# Altium footprint library BASIC Library.PCBLIB: 464 footprints (part 13 of 30)
Each footprint in its own frame and in the unit in brackets; x right, y up, seen from the top. Pads: shape width x height; smd on the part's side, far side on the other; paste and mask are expansions set on the pad; w line width, h text height; cw(c..) or ccw(c..) is an arc to the next point about the centre after c.
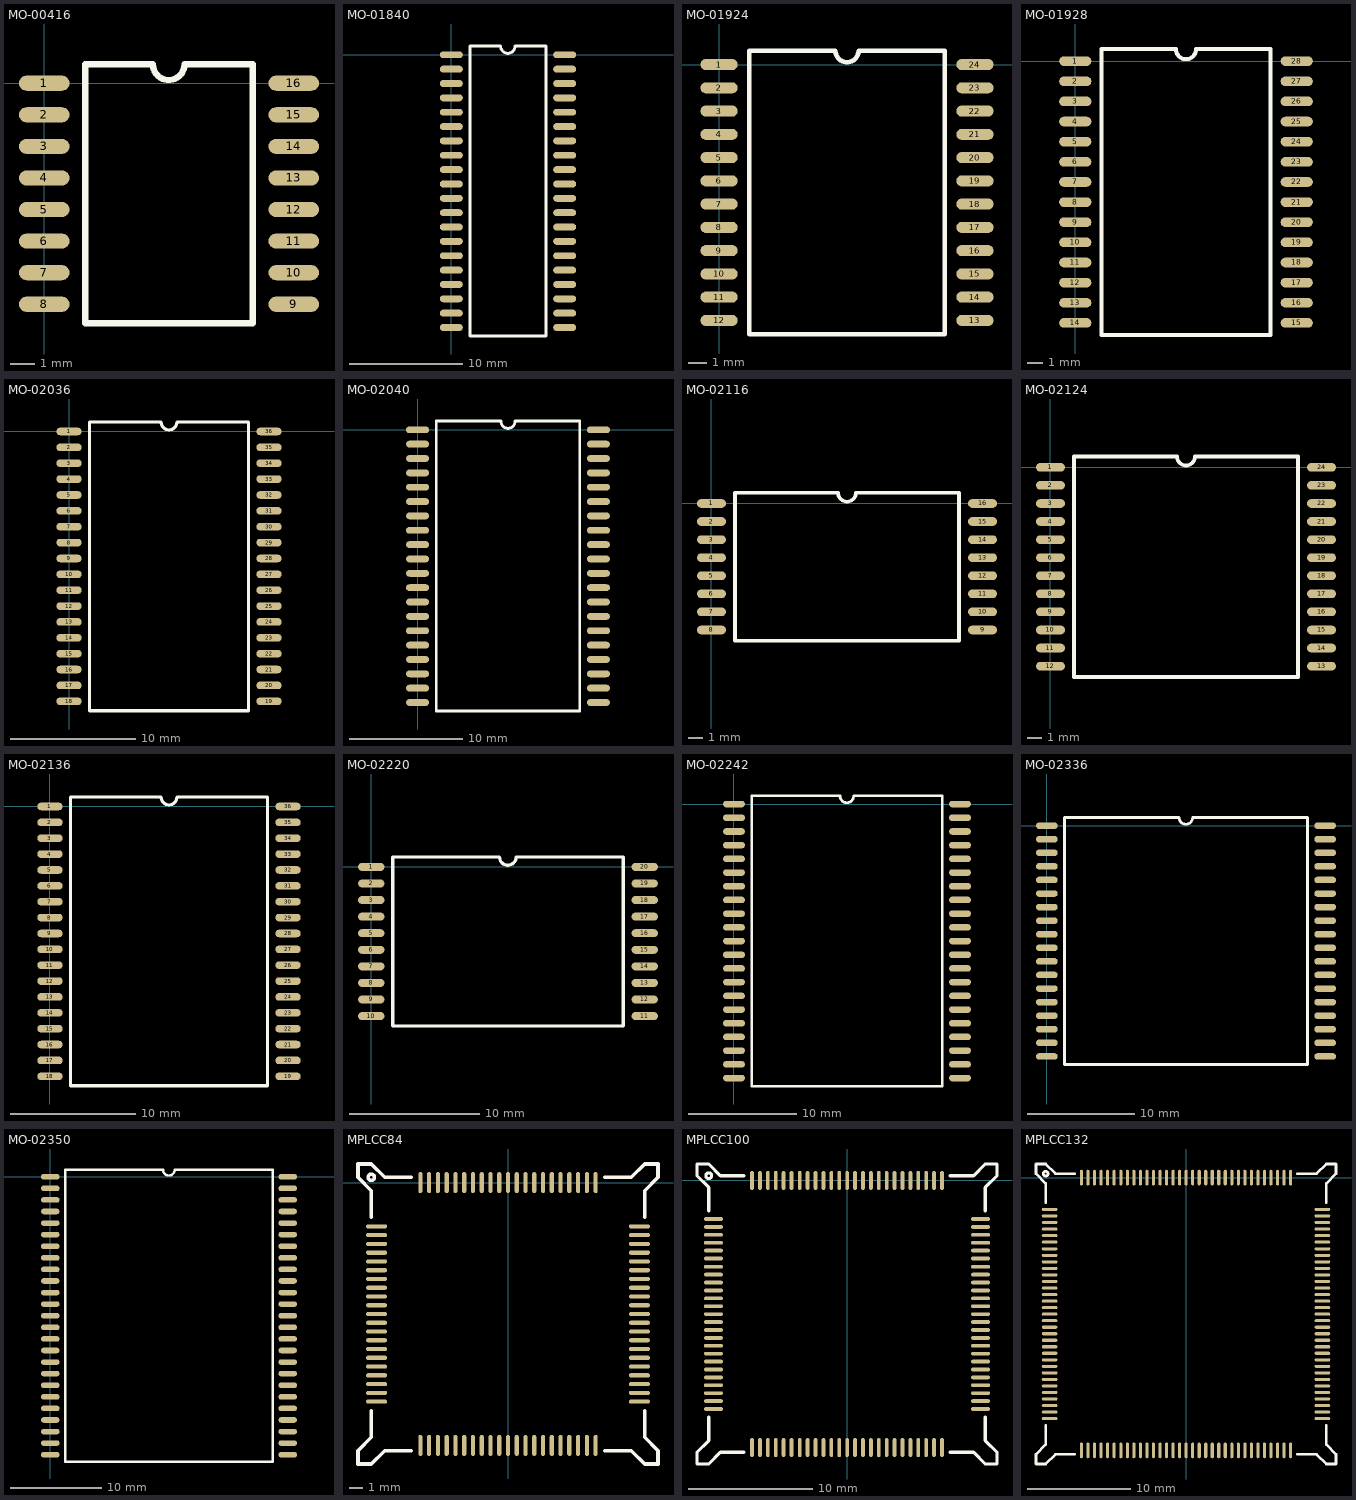
[diagram p12: the footprints below, top view; thin cyan lines are the x and y axes]

## MO-00416 [mil]
pads (16):
  oval 80x24 smd: 1(0,0) 2(0,-50) 3(0,-100) 4(0,-150) 5(0,-200) 6(0,-250) 7(0,-300) 8(0,-350) 9(395,-350) 10(395,-300) 11(395,-250) 12(395,-200) 13(395,-150) 14(395,-100) 15(395,-50) 16(395,0)
TopOverlay:
  lines w10: 65,-380 65,30 172,30 ccw(c197,30) 222,30 330,30 330,-380 65,-380

## MO-01840 [mil]
pads (40):
  oval 80x24 smd: 1(0,0) 2(0,-50) 3(0,-100) 4(0,-150) 5(0,-200) 6(0,-250) 7(0,-300) 8(0,-350) 9(0,-400) 10(0,-450) 11(0,-500) 12(0,-550) 13(0,-600) 14(0,-650) 15(0,-700) 16(0,-750) 17(0,-800) 18(0,-850) 19(0,-900) 20(0,-950) 21(395,-950) 22(395,-900) 23(395,-850) 24(395,-800) 25(395,-750) 26(395,-700) 27(395,-650) 28(395,-600) 29(395,-550) 30(395,-500) 31(395,-450) 32(395,-400) 33(395,-350) 34(395,-300) 35(395,-250) 36(395,-200) 37(395,-150) 38(395,-100) 39(395,-50) 40(395,0)
TopOverlay:
  lines w10: 65,-980 330,-980 330,30 222,30 cw(c197,30) 172,30 65,30 65,-980

## MO-01924 [mil]
pads (24):
  oval 80x24 smd: 1(0,0) 2(0,-50) 3(0,-100) 4(0,-150) 5(0,-200) 6(0,-250) 7(0,-300) 8(0,-350) 9(0,-400) 10(0,-450) 11(0,-500) 12(0,-550) 13(550,-550) 14(550,-500) 15(550,-450) 16(550,-400) 17(550,-350) 18(550,-300) 19(550,-250) 20(550,-200) 21(550,-150) 22(550,-100) 23(550,-50) 24(550,0)
TopOverlay:
  lines w10: 65,-580 65,30 250,30 ccw(c275,30) 300,30 485,30 485,-580 65,-580

## MO-01928 [mil]
pads (28):
  oval 80x24 smd: 1(0,0) 2(0,-50) 3(0,-100) 4(0,-150) 5(0,-200) 6(0,-250) 7(0,-300) 8(0,-350) 9(0,-400) 10(0,-450) 11(0,-500) 12(0,-550) 13(0,-600) 14(0,-650) 15(550,-650) 16(550,-600) 17(550,-550) 18(550,-500) 19(550,-450) 20(550,-400) 21(550,-350) 22(550,-300) 23(550,-250) 24(550,-200) 25(550,-150) 26(550,-100) 27(550,-50) 28(550,0)
TopOverlay:
  lines w10: 65,-680 65,30 250,30 ccw(c275,30) 300,30 485,30 485,-680 65,-680

## MO-02036 [mil]
pads (36):
  oval 80x24 smd: 1(0,0) 2(0,-50) 3(0,-100) 4(0,-150) 5(0,-200) 6(0,-250) 7(0,-300) 8(0,-350) 9(0,-400) 10(0,-450) 11(0,-500) 12(0,-550) 13(0,-600) 14(0,-650) 15(0,-700) 16(0,-750) 17(0,-800) 18(0,-850) 19(630,-850) 20(630,-800) 21(630,-750) 22(630,-700) 23(630,-650) 24(630,-600) 25(630,-550) 26(630,-500) 27(630,-450) 28(630,-400) 29(630,-350) 30(630,-300) 31(630,-250) 32(630,-200) 33(630,-150) 34(630,-100) 35(630,-50) 36(630,0)
TopOverlay:
  lines w10: 65,-880 65,30 290,30 ccw(c315,30) 340,30 565,30 565,-880 65,-880

## MO-02040 [mil]
pads (40):
  oval 80x24 smd: 1(0,0) 2(0,-50) 3(0,-100) 4(0,-150) 5(0,-200) 6(0,-250) 7(0,-300) 8(0,-350) 9(0,-400) 10(0,-450) 11(0,-500) 12(0,-550) 13(0,-600) 14(0,-650) 15(0,-700) 16(0,-750) 17(0,-800) 18(0,-850) 19(0,-900) 20(0,-950) 21(630,-950) 22(630,-900) 23(630,-850) 24(630,-800) 25(630,-750) 26(630,-700) 27(630,-650) 28(630,-600) 29(630,-550) 30(630,-500) 31(630,-450) 32(630,-400) 33(630,-350) 34(630,-300) 35(630,-250) 36(630,-200) 37(630,-150) 38(630,-100) 39(630,-50) 40(630,0)
TopOverlay:
  lines w10: 65,-980 65,30 290,30 ccw(c315,30) 340,30 565,30 565,-980 65,-980

## MO-02116 [mil]
pads (16):
  oval 80x24 smd: 1(0,0) 2(0,-50) 3(0,-100) 4(0,-150) 5(0,-200) 6(0,-250) 7(0,-300) 8(0,-350) 9(750,-350) 10(750,-300) 11(750,-250) 12(750,-200) 13(750,-150) 14(750,-100) 15(750,-50) 16(750,0)
TopOverlay:
  lines w10: 65,-380 65,30 350,30 ccw(c375,30) 400,30 685,30 685,-380 65,-380

## MO-02124 [mil]
pads (24):
  oval 80x24 smd: 1(0,0) 2(0,-50) 3(0,-100) 4(0,-150) 5(0,-200) 6(0,-250) 7(0,-300) 8(0,-350) 9(0,-400) 10(0,-450) 11(0,-500) 12(0,-550) 13(750,-550) 14(750,-500) 15(750,-450) 16(750,-400) 17(750,-350) 18(750,-300) 19(750,-250) 20(750,-200) 21(750,-150) 22(750,-100) 23(750,-50) 24(750,0)
TopOverlay:
  lines w10: 65,-580 65,30 350,30 ccw(c375,30) 400,30 685,30 685,-580 65,-580

## MO-02136 [mil]
pads (36):
  oval 80x24 smd: 1(0,0) 2(0,-50) 3(0,-100) 4(0,-150) 5(0,-200) 6(0,-250) 7(0,-300) 8(0,-350) 9(0,-400) 10(0,-450) 11(0,-500) 12(0,-550) 13(0,-600) 14(0,-650) 15(0,-700) 16(0,-750) 17(0,-800) 18(0,-850) 19(750,-850) 20(750,-800) 21(750,-750) 22(750,-700) 23(750,-650) 24(750,-600) 25(750,-550) 26(750,-500) 27(750,-450) 28(750,-400) 29(750,-350) 30(750,-300) 31(750,-250) 32(750,-200) 33(750,-150) 34(750,-100) 35(750,-50) 36(750,0)
TopOverlay:
  lines w10: 65,-880 65,30 350,30 ccw(c375,30) 400,30 685,30 685,-880 65,-880

## MO-02220 [mil]
pads (20):
  oval 80x24 smd: 1(0,0) 2(0,-50) 3(0,-100) 4(0,-150) 5(0,-200) 6(0,-250) 7(0,-300) 8(0,-350) 9(0,-400) 10(0,-450) 11(825,-450) 12(825,-400) 13(825,-350) 14(825,-300) 15(825,-250) 16(825,-200) 17(825,-150) 18(825,-100) 19(825,-50) 20(825,0)
TopOverlay:
  lines w10: 65,-480 65,30 387,30 ccw(c412,30) 437,30 760,30 760,-480 65,-480

## MO-02242 [mil]
pads (42):
  oval 80x24 smd: 1(0,0) 2(0,-50) 3(0,-100) 4(0,-150) 5(0,-200) 6(0,-250) 7(0,-300) 8(0,-350) 9(0,-400) 10(0,-450) 11(0,-500) 12(0,-550) 13(0,-600) 14(0,-650) 15(0,-700) 16(0,-750) 17(0,-800) 18(0,-850) 19(0,-900) 20(0,-950) 21(0,-1000) 22(825,-1000) 23(825,-950) 24(825,-900) 25(825,-850) 26(825,-800) 27(825,-750) 28(825,-700) 29(825,-650) 30(825,-600) 31(825,-550) 32(825,-500) 33(825,-450) 34(825,-400) 35(825,-350) 36(825,-300) 37(825,-250) 38(825,-200) 39(825,-150) 40(825,-100) 41(825,-50) 42(825,0)
TopOverlay:
  lines w10: 65,-1030 65,30 387,30 ccw(c412,30) 437,30 760,30 760,-1030 65,-1030

## MO-02336 [mil]
pads (36):
  oval 80x24 smd: 1(0,0) 2(0,-50) 3(0,-100) 4(0,-150) 5(0,-200) 6(0,-250) 7(0,-300) 8(0,-350) 9(0,-400) 10(0,-450) 11(0,-500) 12(0,-550) 13(0,-600) 14(0,-650) 15(0,-700) 16(0,-750) 17(0,-800) 18(0,-850) 19(1025,-850) 20(1025,-800) 21(1025,-750) 22(1025,-700) 23(1025,-650) 24(1025,-600) 25(1025,-550) 26(1025,-500) 27(1025,-450) 28(1025,-400) 29(1025,-350) 30(1025,-300) 31(1025,-250) 32(1025,-200) 33(1025,-150) 34(1025,-100) 35(1025,-50) 36(1025,0)
TopOverlay:
  lines w10: 65,-880 65,30 487,30 ccw(c512,30) 537,30 960,30 960,-880 65,-880

## MO-02350 [mil]
pads (50):
  oval 80x24 smd: 1(0,0) 2(0,-50) 3(0,-100) 4(0,-150) 5(0,-200) 6(0,-250) 7(0,-300) 8(0,-350) 9(0,-400) 10(0,-450) 11(0,-500) 12(0,-550) 13(0,-600) 14(0,-650) 15(0,-700) 16(0,-750) 17(0,-800) 18(0,-850) 19(0,-900) 20(0,-950) 21(0,-1000) 22(0,-1050) 23(0,-1100) 24(0,-1150) 25(0,-1200) 26(1025,-1200) 27(1025,-1150) 28(1025,-1100) 29(1025,-1050) 30(1025,-1000) 31(1025,-950) 32(1025,-900) 33(1025,-850) 34(1025,-800) 35(1025,-750) 36(1025,-700) 37(1025,-650) 38(1025,-600) 39(1025,-550) 40(1025,-500) 41(1025,-450) 42(1025,-400) 43(1025,-350) 44(1025,-300) 45(1025,-250) 46(1025,-200) 47(1025,-150) 48(1025,-100) 49(1025,-50) 50(1025,0)
TopOverlay:
  lines w10: 65,-1230 65,30 487,30 ccw(c512,30) 537,30 960,30 960,-1230 65,-1230

## MPLCC84 [mil]
pads (84):
  oval 12x60 smd: 1(0,0) 2(-25,0) 3(-50,0) 4(-75,0) 5(-100,0) 6(-125,0) 7(-150,0) 8(-175,0) 9(-200,0) 10(-225,0) 11(-250,0) 33(-250,-750) 34(-225,-750) 35(-200,-750) 36(-175,-750) 37(-150,-750) 38(-125,-750) 39(-100,-750) 40(-75,-750) 41(-50,-750) 42(-25,-750) 43(0,-750) 44(25,-750) 45(50,-750) 46(75,-750) 47(100,-750) 48(125,-750) 49(150,-750) 50(175,-750) 51(200,-750) 52(225,-750) 53(250,-750) 75(250,0) 76(225,0) 77(200,0) 78(175,0) 79(150,0) 80(125,0) 81(100,0) 82(75,0) 83(50,0) 84(25,0)
  oval 60x12 smd: 12(-375,-125) 13(-375,-150) 14(-375,-175) 15(-375,-200) 16(-375,-225) 17(-375,-250) 18(-375,-275) 19(-375,-300) 20(-375,-325) 21(-375,-350) 22(-375,-375) 23(-375,-400) 24(-375,-425) 25(-375,-450) 26(-375,-475) 27(-375,-500) 28(-375,-525) 29(-375,-550) 30(-375,-575) 31(-375,-600) 32(-375,-625) 54(375,-625) 55(375,-600) 56(375,-575) 57(375,-550) 58(375,-525) 59(375,-500) 60(375,-475) 61(375,-450) 62(375,-425) 63(375,-400) 64(375,-375) 65(375,-350) 66(375,-325) 67(375,-300) 68(375,-275) 69(375,-250) 70(375,-225) 71(375,-200) 72(375,-175) 73(375,-150) 74(375,-125)
TopOverlay:
  circle w10: c-390,15 r9
  lines w10: -390,-651 -390,-727 -428,-765 -428,-803 -390,-803 -352,-765 -276,-765 ; -390,-99 -390,-23 -428,15 -428,53 -390,53 -352,15 -276,15 ; 276,-765 352,-765 390,-803 428,-803 428,-765 390,-727 390,-651 ; 276,15 352,15 390,53 428,53 428,15 390,-23 390,-99

## MPLCC100 [mil]
pads (100):
  oval 12x60 smd: 1(0,0) 2(-25,0) 3(-50,0) 4(-75,0) 5(-100,0) 6(-125,0) 7(-150,0) 8(-176,0) 9(-201,0) 10(-226,0) 11(-251,0) 12(-276,0) 13(-301,0) 39(-301,-845) 40(-276,-845) 41(-251,-845) 42(-226,-845) 43(-201,-845) 44(-176,-845) 45(-150,-845) 46(-125,-845) 47(-100,-845) 48(-75,-845) 49(-50,-845) 50(-25,-845) 51(0,-845) 52(25,-845) 53(50,-845) 54(75,-845) 55(100,-845) 56(125,-845) 57(150,-845) 58(175,-845) 59(200,-845) 60(225,-845) 61(250,-845) 62(275,-845) 63(300,-845) 89(300,0) 90(275,0) 91(250,0) 92(225,0) 93(200,0) 94(175,0) 95(150,0) 96(125,0) 97(100,0) 98(75,0) 99(50,0) 100(25,0)
  oval 60x12 smd: 14(-423,-122) 15(-423,-147) 16(-423,-172) 17(-423,-197) 18(-423,-222) 19(-423,-247) 20(-423,-273) 21(-423,-298) 22(-423,-323) 23(-423,-348) 24(-423,-373) 25(-423,-398) 26(-423,-423) 27(-423,-448) 28(-423,-473) 29(-423,-498) 30(-423,-523) 31(-423,-548) 32(-423,-573) 33(-423,-598) 34(-423,-623) 35(-423,-648) 36(-423,-673) 37(-423,-698) 38(-423,-723) 64(422,-723) 65(422,-698) 66(422,-673) 67(422,-648) 68(422,-623) 69(422,-598) 70(422,-573) 71(422,-548) 72(422,-523) 73(422,-498) 74(422,-473) 75(422,-448) 76(422,-423) 77(422,-398) 78(422,-373) 79(422,-348) 80(422,-323) 81(422,-298) 82(422,-273) 83(422,-247) 84(422,-222) 85(422,-197) 86(422,-172) 87(422,-147) 88(422,-122)
TopOverlay:
  circle w10: c-438,15 r9
  lines w10: -438,-749 -438,-823 -475,-860 -475,-897 -438,-897 -401,-860 -327,-860 ; -438,-96 -438,-22 -475,15 -475,52 -438,52 -401,15 -327,15 ; 326,-860 400,-860 437,-897 474,-897 474,-860 437,-823 437,-749 ; 326,15 400,15 437,52 474,52 474,15 437,-22 437,-96

## MPLCC132 [mil]
pads (132):
  oval 12x60 smd: 1(0,0) 2(-25,0) 3(-50,0) 4(-75,0) 5(-100,0) 6(-125,0) 7(-150,0) 8(-175,0) 9(-200,0) 10(-225,0) 11(-250,0) 12(-276,0) 13(-301,0) 14(-326,0) 15(-351,0) 16(-376,0) 17(-401,0) 51(-401,-1045) 52(-376,-1045) 53(-351,-1045) 54(-326,-1045) 55(-301,-1045) 56(-276,-1045) 57(-250,-1045) 58(-225,-1045) 59(-200,-1045) 60(-175,-1045) 61(-150,-1045) 62(-125,-1045) 63(-100,-1045) 64(-75,-1045) 65(-50,-1045) 66(-25,-1045) 67(0,-1045) 68(25,-1045) 69(50,-1045) 70(75,-1045) 71(100,-1045) 72(125,-1045) 73(150,-1045) 74(175,-1045) 75(200,-1045) 76(225,-1045) 77(250,-1045) 78(275,-1045) 79(300,-1045) 80(325,-1045) 81(350,-1045) 82(375,-1045) 83(400,-1045) 117(400,0) 118(375,0) 119(350,0) 120(325,0) 121(300,0) 122(275,0) 123(250,0) 124(225,0) 125(200,0) 126(175,0) 127(150,0) 128(125,0) 129(100,0) 130(75,0) 131(50,0) 132(25,0)
  oval 60x12 smd: 18(-523,-122) 19(-523,-147) 20(-523,-172) 21(-523,-197) 22(-523,-222) 23(-523,-247) 24(-523,-273) 25(-523,-298) 26(-523,-323) 27(-523,-348) 28(-523,-373) 29(-523,-398) 30(-523,-423) 31(-523,-448) 32(-523,-473) 33(-523,-498) 34(-523,-523) 35(-523,-548) 36(-523,-573) 37(-523,-598) 38(-523,-623) 39(-523,-648) 40(-523,-673) 41(-523,-698) 42(-523,-723) 43(-523,-748) 44(-523,-773) 45(-523,-798) 46(-523,-823) 47(-523,-848) 48(-523,-873) 49(-523,-898) 50(-523,-923) 84(522,-923) 85(522,-898) 86(522,-873) 87(522,-848) 88(522,-823) 89(522,-798) 90(522,-773) 91(522,-748) 92(522,-723) 93(522,-698) 94(522,-673) 95(522,-648) 96(522,-623) 97(522,-598) 98(522,-573) 99(522,-548) 100(522,-523) 101(522,-498) 102(522,-473) 103(522,-448) 104(522,-423) 105(522,-398) 106(522,-373) 107(522,-348) 108(522,-323) 109(522,-298) 110(522,-273) 111(522,-247) 112(522,-222) 113(522,-197) 114(522,-172) 115(522,-147) 116(522,-122)
TopOverlay:
  circle w10: c-538,15 r9
  lines w10: -538,-949 -538,-1023 -575,-1060 -575,-1097 -538,-1097 -501,-1060 -427,-1060 ; -538,-96 -538,-22 -575,15 -575,52 -538,52 -501,15 -427,15 ; 426,-1060 500,-1060 537,-1097 574,-1097 574,-1060 537,-1023 537,-949 ; 426,15 500,15 537,52 574,52 574,15 537,-22 537,-96